# Altium schematic symbol library WE-CMB.SchLib: 36 symbols
Pins are listed as number, name and electrical type; pins without a type are passive.

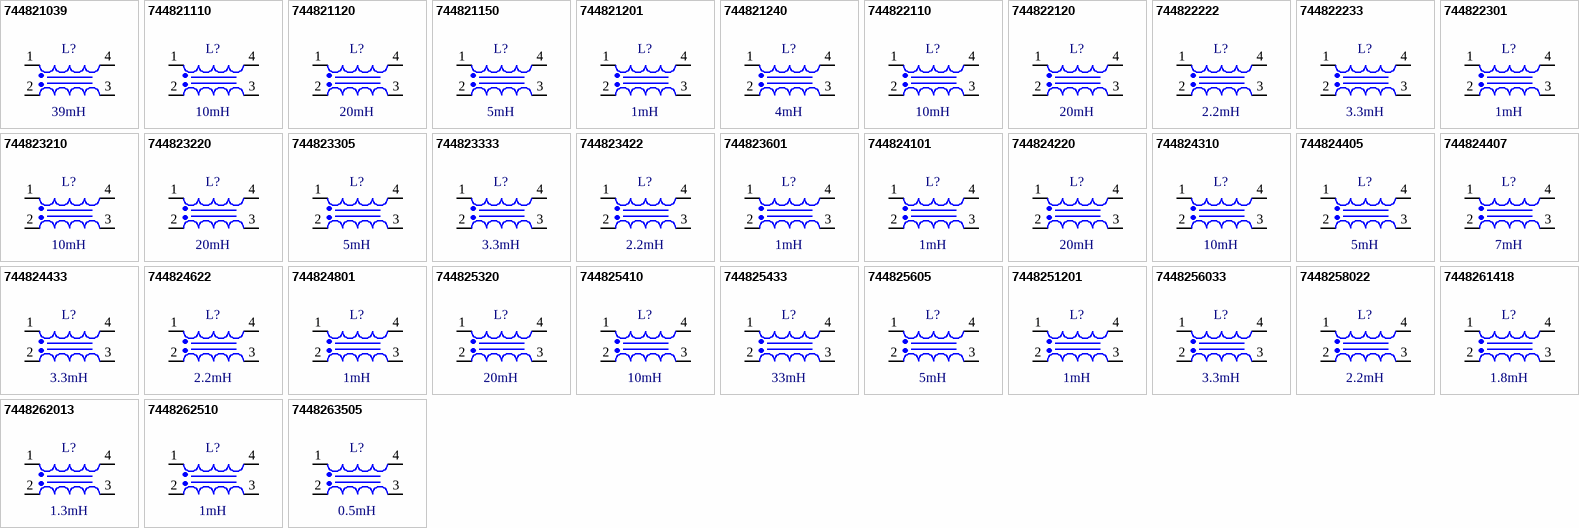
[diagram p0: symbols 744821039 to 7448263505]

## 744821039
designator L?, comment 39mH
WE-CMB Common Mode Power Line Choke, THT, Type XS, 39mH, 0.3A, 3000mΩ; Manufacturer Part Number: 744821039; Manufacturer: Wurth Elektronik; Case/Size Code: Type XS; Insulation Test Voltage: 1500VAC; Material: MnZn; Rated Voltage (AC): 250V; Category: Common Mode Chokes; Match Code: WE-CMB; ComponentLink1Description: Website Link; ComponentLink1URL: https://www.we-online.com/redexpert/article/744821039?ad; ComponentLink2Description: Datasheet Link; ComponentLink2URL: https://www.we-online.com/redexpert/spec/744821039?ad; Mount: Through Hole; Min Operating Temperature: -40°C; Max Operating Temperature: 125°C; Packaging: Carton; Length: 15mm; Width: 7.5mm; Height: 18mm; DC Resistance Max: 3000mΩ; Inductance: 39mH; Rated Current: 0.3A
footprint WE-CMB_Type XS_L15W7.5H18
simulation model XS_744821039_39m
pins: 1, 2, 3, 4

## 744821110
designator L?, comment 10mH
WE-CMB Common Mode Power Line Choke, THT, Type XS, 10mH, 0.7A, 350mΩ; Manufacturer Part Number: 744821110; Manufacturer: Wurth Elektronik; Case/Size Code: Type XS; Insulation Test Voltage: 1500VAC; Material: MnZn; Rated Voltage (AC): 250V; Category: Common Mode Chokes; Match Code: WE-CMB; ComponentLink1Description: Website Link; ComponentLink1URL: https://www.we-online.com/redexpert/article/744821110?ad; ComponentLink2Description: Datasheet Link; ComponentLink2URL: https://www.we-online.com/redexpert/spec/744821110?ad; Mount: Through Hole; Min Operating Temperature: -40°C; Max Operating Temperature: 125°C; Packaging: Carton; Length: 15mm; Width: 7.5mm; Height: 18mm; DC Resistance Max: 350mΩ; Inductance: 10mH; Rated Current: 0.7A
footprint WE-CMB_Type XS_L15W7.5H18
simulation model XS_744821110_10m
pins: 1, 2, 3, 4

## 744821120
designator L?, comment 20mH
WE-CMB Common Mode Power Line Choke, THT, Type XS, 20mH, 0.5A, 1000mΩ; Manufacturer Part Number: 744821120; Manufacturer: Wurth Elektronik; Case/Size Code: Type XS; Insulation Test Voltage: 1500VAC; Material: MnZn; Rated Voltage (AC): 250V; Category: Common Mode Chokes; Match Code: WE-CMB; ComponentLink1Description: Website Link; ComponentLink1URL: https://www.we-online.com/redexpert/article/744821120?ad; ComponentLink2Description: Datasheet Link; ComponentLink2URL: https://www.we-online.com/redexpert/spec/744821120?ad; Mount: Through Hole; Min Operating Temperature: -40°C; Max Operating Temperature: 125°C; Packaging: Carton; Length: 15mm; Width: 7.8mm; Height: 17.5mm; DC Resistance Max: 1000mΩ; Inductance: 20mH; Rated Current: 0.5A
footprint WE-CMB_Type XS_L15W7.8H17.5
simulation model XS_744821120_20m
pins: 1, 2, 3, 4

## 744821150
designator L?, comment 5mH
WE-CMB Common Mode Power Line Choke, THT, Type XS, 5mH, 1A, 220mΩ; Manufacturer Part Number: 744821150; Manufacturer: Wurth Elektronik; Case/Size Code: Type XS; Insulation Test Voltage: 1500VAC; Material: MnZn; Rated Voltage (AC): 250V; Category: Common Mode Chokes; Match Code: WE-CMB; ComponentLink1Description: Website Link; ComponentLink1URL: https://www.we-online.com/redexpert/article/744821150?ad; ComponentLink2Description: Datasheet Link; ComponentLink2URL: https://www.we-online.com/redexpert/spec/744821150?ad; Mount: Through Hole; Min Operating Temperature: -40°C; Max Operating Temperature: 125°C; Packaging: Carton; Length: 15mm; Width: 7.8mm; Height: 18mm; DC Resistance Max: 220mΩ; Inductance: 5mH; Rated Current: 1A
footprint WE-CMB_Type XS_L15W7.8H18
simulation model XS_744821150_5m
pins: 1, 2, 3, 4

## 744821201
designator L?, comment 1mH
WE-CMB Common Mode Power Line Choke, THT, Type XS, 1mH, 2A, 45mΩ; Manufacturer Part Number: 744821201; Manufacturer: Wurth Elektronik; Case/Size Code: Type XS; Insulation Test Voltage: 1500VAC; Material: MnZn; Rated Voltage (AC): 250V; Category: Common Mode Chokes; Match Code: WE-CMB; ComponentLink1Description: Website Link; ComponentLink1URL: https://www.we-online.com/redexpert/article/744821201?ad; ComponentLink2Description: Datasheet Link; ComponentLink2URL: https://www.we-online.com/redexpert/spec/744821201?ad; Mount: Through Hole; Min Operating Temperature: -40°C; Max Operating Temperature: 125°C; Packaging: Carton; Length: 15mm; Width: 7.5mm; Height: 18mm; DC Resistance Max: 45mΩ; Inductance: 1mH; Rated Current: 2A
footprint WE-CMB_Type XS_L15W7.5H18
simulation model XS_744821201_1m
pins: 1, 2, 3, 4

## 744821240
designator L?, comment 4mH
WE-CMB Common Mode Power Line Choke, THT, Type XS, 4mH, 1.5A, 140mΩ; Manufacturer Part Number: 744821240; Manufacturer: Wurth Elektronik; Case/Size Code: Type XS; Insulation Test Voltage: 1500VAC; Material: MnZn; Rated Voltage (AC): 250V; Category: Common Mode Chokes; Match Code: WE-CMB; ComponentLink1Description: Website Link; ComponentLink1URL: https://www.we-online.com/redexpert/article/744821240?ad; ComponentLink2Description: Datasheet Link; ComponentLink2URL: https://www.we-online.com/redexpert/spec/744821240?ad; Mount: Through Hole; Min Operating Temperature: -40°C; Max Operating Temperature: 125°C; Packaging: Carton; Length: 15.8mm; Width: 7.8mm; Height: 18mm; DC Resistance Max: 140mΩ; Inductance: 4mH; Rated Current: 1.5A
footprint WE-CMB_Type XS_L15.8W7.8H18
simulation model XS_744821240_4m
pins: 1, 2, 3, 4

## 744822110
designator L?, comment 10mH
WE-CMB Common Mode Power Line Choke, THT, Type S, 10mH, 1A, 360mΩ; Manufacturer Part Number: 744822110; Manufacturer: Wurth Elektronik; Case/Size Code: Type S; Insulation Test Voltage: 1500VAC; Material: MnZn; Rated Voltage (AC): 250V; Category: Common Mode Chokes; Match Code: WE-CMB; ComponentLink1Description: Website Link; ComponentLink1URL: https://www.we-online.com/redexpert/article/744822110?ad; ComponentLink2Description: Datasheet Link; ComponentLink2URL: https://www.we-online.com/redexpert/spec/744822110?ad; Mount: Through Hole; Min Operating Temperature: -40°C; Max Operating Temperature: 125°C; Packaging: Carton; Length: 17.5mm; Width: 13mm; Height: 22mm; DC Resistance Max: 360mΩ; Inductance: 10mH; Rated Current: 1A
footprint WE-CMB_Type S_L17.5W13H22
simulation model S_744822110_10m
pins: 1, 2, 3, 4

## 744822120
designator L?, comment 20mH
WE-CMB Common Mode Power Line Choke, THT, Type S, 20mH, 0.5A, 540mΩ; Manufacturer Part Number: 744822120; Manufacturer: Wurth Elektronik; Case/Size Code: Type S; Insulation Test Voltage: 1500VAC; Material: MnZn; Rated Voltage (AC): 250V; Category: Common Mode Chokes; Match Code: WE-CMB; ComponentLink1Description: Website Link; ComponentLink1URL: https://www.we-online.com/redexpert/article/744822120?ad; ComponentLink2Description: Datasheet Link; ComponentLink2URL: https://www.we-online.com/redexpert/spec/744822120?ad; Mount: Through Hole; Min Operating Temperature: -40°C; Max Operating Temperature: 125°C; Packaging: Carton; Length: 17.5mm; Width: 13mm; Height: 22mm; DC Resistance Max: 540mΩ; Inductance: 20mH; Rated Current: 0.5A
footprint WE-CMB_Type S_L17.5W13H22
simulation model S_744822120_20m
pins: 1, 2, 3, 4

## 744822222
designator L?, comment 2.2mH
WE-CMB Common Mode Power Line Choke, THT, Type S, 2.2mH, 2A, 70mΩ; Manufacturer Part Number: 744822222; Manufacturer: Wurth Elektronik; Case/Size Code: Type S; Insulation Test Voltage: 1500VAC; Material: MnZn; Rated Voltage (AC): 250V; Category: Common Mode Chokes; Match Code: WE-CMB; ComponentLink1Description: Website Link; ComponentLink1URL: https://www.we-online.com/redexpert/article/744822222?ad; ComponentLink2Description: Datasheet Link; ComponentLink2URL: https://www.we-online.com/redexpert/spec/744822222?ad; Mount: Through Hole; Min Operating Temperature: -40°C; Max Operating Temperature: 125°C; Packaging: Carton; Length: 17.5mm; Width: 13mm; Height: 22mm; DC Resistance Max: 70mΩ; Inductance: 2.2mH; Rated Current: 2A
footprint WE-CMB_Type S_L17.5W13H22
simulation model S_744822222_2.2m
pins: 1, 2, 3, 4

## 744822233
designator L?, comment 3.3mH
WE-CMB Common Mode Power Line Choke, THT, Type S, 3.3mH, 1.5A, 120mΩ; Manufacturer Part Number: 744822233; Manufacturer: Wurth Elektronik; Case/Size Code: Type S; Insulation Test Voltage: 1500VAC; Material: MnZn; Rated Voltage (AC): 250V; Category: Common Mode Chokes; Match Code: WE-CMB; ComponentLink1Description: Website Link; ComponentLink1URL: https://www.we-online.com/redexpert/article/744822233?ad; ComponentLink2Description: Datasheet Link; ComponentLink2URL: https://www.we-online.com/redexpert/spec/744822233?ad; Mount: Through Hole; Min Operating Temperature: -40°C; Max Operating Temperature: 125°C; Packaging: Carton; Length: 17.5mm; Width: 13mm; Height: 22mm; DC Resistance Max: 120mΩ; Inductance: 3.3mH; Rated Current: 1.5A
footprint WE-CMB_Type S_L17.5W13H22
simulation model S_744822233_3.3m
pins: 1, 2, 3, 4

## 744822301
designator L?, comment 1mH
WE-CMB Common Mode Power Line Choke, THT, Type S, 1mH, 3A, 35mΩ; Manufacturer Part Number: 744822301; Manufacturer: Wurth Elektronik; Case/Size Code: Type S; Insulation Test Voltage: 1500VAC; Material: MnZn; Rated Voltage (AC): 250V; Category: Common Mode Chokes; Match Code: WE-CMB; ComponentLink1Description: Website Link; ComponentLink1URL: https://www.we-online.com/redexpert/article/744822301?ad; ComponentLink2Description: Datasheet Link; ComponentLink2URL: https://www.we-online.com/redexpert/spec/744822301?ad; Mount: Through Hole; Min Operating Temperature: -40°C; Max Operating Temperature: 125°C; Packaging: Carton; Length: 17.5mm; Width: 13mm; Height: 22mm; DC Resistance Max: 35mΩ; Inductance: 1mH; Rated Current: 3A
footprint WE-CMB_Type S_L17.5W13H22
simulation model S_744822301_1m
pins: 1, 2, 3, 4

## 744823210
designator L?, comment 10mH
WE-CMB Common Mode Power Line Choke, THT, Type M, 10mH, 2A, 125mΩ; Manufacturer Part Number: 744823210; Manufacturer: Wurth Elektronik; Case/Size Code: Type M; Insulation Test Voltage: 1500VAC; Material: MnZn; Rated Voltage (AC): 250V; Category: Common Mode Chokes; Match Code: WE-CMB; ComponentLink1Description: Website Link; ComponentLink1URL: https://www.we-online.com/redexpert/article/744823210?ad; ComponentLink2Description: Datasheet Link; ComponentLink2URL: https://www.we-online.com/redexpert/spec/744823210?ad; Mount: Through Hole; Min Operating Temperature: -40°C; Max Operating Temperature: 125°C; Packaging: Carton; Length: 23mm; Width: 13.8mm; Height: 25.5mm; DC Resistance Max: 125mΩ; Inductance: 10mH; Rated Current: 2A
footprint WE-CMB_Type M_L23W13.8H25.5
simulation model M_744823210_10m
pins: 1, 2, 3, 4

## 744823220
designator L?, comment 20mH
WE-CMB Common Mode Power Line Choke, THT, Type M, 20mH, 1.5A, 270mΩ; Manufacturer Part Number: 744823220; Manufacturer: Wurth Elektronik; Case/Size Code: Type M; Insulation Test Voltage: 1500VAC; Material: MnZn; Rated Voltage (AC): 250V; Category: Common Mode Chokes; Match Code: WE-CMB; ComponentLink1Description: Website Link; ComponentLink1URL: https://www.we-online.com/redexpert/article/744823220?ad; ComponentLink2Description: Datasheet Link; ComponentLink2URL: https://www.we-online.com/redexpert/spec/744823220?ad; Mount: Through Hole; Min Operating Temperature: -40°C; Max Operating Temperature: 125°C; Packaging: Carton; Length: 23mm; Width: 13.8mm; Height: 25.5mm; DC Resistance Max: 270mΩ; Inductance: 20mH; Rated Current: 1.5A
footprint WE-CMB_Type M_L23W13.8H25.5
simulation model M_744823220_20m
pins: 1, 2, 3, 4

## 744823305
designator L?, comment 5mH
WE-CMB Common Mode Power Line Choke, THT, Type M, 5mH, 2.5A, 95mΩ; Manufacturer Part Number: 744823305; Manufacturer: Wurth Elektronik; Case/Size Code: Type M; Insulation Test Voltage: 1500VAC; Material: MnZn; Rated Voltage (AC): 250V; Category: Common Mode Chokes; Match Code: WE-CMB; ComponentLink1Description: Website Link; ComponentLink1URL: https://www.we-online.com/redexpert/article/744823305?ad; ComponentLink2Description: Datasheet Link; ComponentLink2URL: https://www.we-online.com/redexpert/spec/744823305?ad; Mount: Through Hole; Min Operating Temperature: -40°C; Max Operating Temperature: 125°C; Packaging: Carton; Length: 23mm; Width: 13mm; Height: 25.5mm; DC Resistance Max: 95mΩ; Inductance: 5mH; Rated Current: 2.5A
footprint WE-CMB_Type M_L23W13H25.5
simulation model M_744823305_5m
pins: 1, 2, 3, 4

## 744823333
designator L?, comment 3.3mH
WE-CMB Common Mode Power Line Choke, THT, Type M, 3.3mH, 2.5A, 60mΩ; Manufacturer Part Number: 744823333; Manufacturer: Wurth Elektronik; Case/Size Code: Type M; Insulation Test Voltage: 1500VAC; Material: MnZn; Rated Voltage (AC): 250V; Category: Common Mode Chokes; Match Code: WE-CMB; ComponentLink1Description: Website Link; ComponentLink1URL: https://www.we-online.com/redexpert/article/744823333?ad; ComponentLink2Description: Datasheet Link; ComponentLink2URL: https://www.we-online.com/redexpert/spec/744823333?ad; Mount: Through Hole; Min Operating Temperature: -40°C; Max Operating Temperature: 125°C; Packaging: Carton; Length: 23.5mm; Width: 13mm; Height: 25.5mm; DC Resistance Max: 60mΩ; Inductance: 3.3mH; Rated Current: 2.5A
footprint WE-CMB_Type M_L23.5W13H25.5
simulation model M_744823333_3.3m
pins: 1, 2, 3, 4

## 744823422
designator L?, comment 2.2mH
WE-CMB Common Mode Power Line Choke, THT, Type M, 2.2mH, 4A, 30mΩ; Manufacturer Part Number: 744823422; Manufacturer: Wurth Elektronik; Case/Size Code: Type M; Insulation Test Voltage: 1500VAC; Material: MnZn; Rated Voltage (AC): 250V; Category: Common Mode Chokes; Match Code: WE-CMB; ComponentLink1Description: Website Link; ComponentLink1URL: https://www.we-online.com/redexpert/article/744823422?ad; ComponentLink2Description: Datasheet Link; ComponentLink2URL: https://www.we-online.com/redexpert/spec/744823422?ad; Mount: Through Hole; Min Operating Temperature: -40°C; Max Operating Temperature: 125°C; Packaging: Carton; Length: 23.5mm; Width: 13.8mm; Height: 25.5mm; DC Resistance Max: 30mΩ; Inductance: 2.2mH; Rated Current: 4A
footprint WE-CMB_Type M_L23.5W13.8H25.5
simulation model M_744823422_2.2m
pins: 1, 2, 3, 4

## 744823601
designator L?, comment 1mH
WE-CMB Common Mode Power Line Choke, THT, Type M, 1mH, 6A, 13mΩ; Manufacturer Part Number: 744823601; Manufacturer: Wurth Elektronik; Case/Size Code: Type M; Insulation Test Voltage: 1500VAC; Material: MnZn; Rated Voltage (AC): 250V; Category: Common Mode Chokes; Match Code: WE-CMB; ComponentLink1Description: Website Link; ComponentLink1URL: https://www.we-online.com/redexpert/article/744823601?ad; ComponentLink2Description: Datasheet Link; ComponentLink2URL: https://www.we-online.com/redexpert/spec/744823601?ad; Mount: Through Hole; Min Operating Temperature: -40°C; Max Operating Temperature: 125°C; Packaging: Carton; Length: 25mm; Width: 17mm; Height: 26.5mm; DC Resistance Max: 13mΩ; Inductance: 1mH; Rated Current: 6A
footprint WE-CMB_Type M_L25W17H26.5
simulation model M_744823601_1m
pins: 1, 2, 3, 4

## 744824101
designator L?, comment 1mH
WE-CMB Common Mode Power Line Choke, THT, Type L, 1mH, 10A, 7mΩ; Manufacturer Part Number: 744824101; Manufacturer: Wurth Elektronik; Case/Size Code: Type L; Insulation Test Voltage: 1500VAC; Material: MnZn; Rated Voltage (AC): 250V; Category: Common Mode Chokes; Match Code: WE-CMB; ComponentLink1Description: Website Link; ComponentLink1URL: https://www.we-online.com/redexpert/article/744824101?ad; ComponentLink2Description: Datasheet Link; ComponentLink2URL: https://www.we-online.com/redexpert/spec/744824101?ad; Mount: Through Hole; Min Operating Temperature: -40°C; Max Operating Temperature: 125°C; Packaging: Carton; Length: 27.5mm; Width: 18.5mm; Height: 33mm; DC Resistance Max: 7mΩ; Inductance: 1mH; Rated Current: 10A
footprint WE-CMB_Type L_L27.5W18.5H33
simulation model L_744824101_1m
pins: 1, 2, 3, 4

## 744824220
designator L?, comment 20mH
WE-CMB Common Mode Power Line Choke, THT, Type L, 20mH, 2A, 220mΩ; Manufacturer Part Number: 744824220; Manufacturer: Wurth Elektronik; Case/Size Code: Type L; Insulation Test Voltage: 1500VAC; Material: MnZn; Rated Voltage (AC): 250V; Category: Common Mode Chokes; Match Code: WE-CMB; ComponentLink1Description: Website Link; ComponentLink1URL: https://www.we-online.com/redexpert/article/744824220?ad; ComponentLink2Description: Datasheet Link; ComponentLink2URL: https://www.we-online.com/redexpert/spec/744824220?ad; Mount: Through Hole; Min Operating Temperature: -40°C; Max Operating Temperature: 125°C; Packaging: Carton; Length: 27.5mm; Width: 18.5mm; Height: 33mm; DC Resistance Max: 220mΩ; Inductance: 20mH; Rated Current: 2A
footprint WE-CMB_Type L_L27.5W18.5H33
simulation model L_744824220_20m
pins: 1, 2, 3, 4

## 744824310
designator L?, comment 10mH
WE-CMB Common Mode Power Line Choke, THT, Type L, 10mH, 3A, 105mΩ; Manufacturer Part Number: 744824310; Manufacturer: Wurth Elektronik; Case/Size Code: Type L; Insulation Test Voltage: 1500VAC; Material: MnZn; Rated Voltage (AC): 250V; Category: Common Mode Chokes; Match Code: WE-CMB; ComponentLink1Description: Website Link; ComponentLink1URL: https://www.we-online.com/redexpert/article/744824310?ad; ComponentLink2Description: Datasheet Link; ComponentLink2URL: https://www.we-online.com/redexpert/spec/744824310?ad; Mount: Through Hole; Min Operating Temperature: -40°C; Max Operating Temperature: 125°C; Packaging: Carton; Length: 27.5mm; Width: 18.5mm; Height: 33mm; DC Resistance Max: 105mΩ; Inductance: 10mH; Rated Current: 3A
footprint WE-CMB_Type L_L27.5W18.5H33
simulation model L_744824310_10m
pins: 1, 2, 3, 4

## 744824405
designator L?, comment 5mH
WE-CMB Common Mode Power Line Choke, THT, Type L, 5mH, 4A, 50mΩ; Manufacturer Part Number: 744824405; Manufacturer: Wurth Elektronik; Case/Size Code: Type L; Insulation Test Voltage: 1500VAC; Material: MnZn; Rated Voltage (AC): 250V; Category: Common Mode Chokes; Match Code: WE-CMB; ComponentLink1Description: Website Link; ComponentLink1URL: https://www.we-online.com/redexpert/article/744824405?ad; ComponentLink2Description: Datasheet Link; ComponentLink2URL: https://www.we-online.com/redexpert/spec/744824405?ad; Mount: Through Hole; Min Operating Temperature: -40°C; Max Operating Temperature: 125°C; Packaging: Carton; Length: 27.5mm; Width: 18.5mm; Height: 33mm; DC Resistance Max: 50mΩ; Inductance: 5mH; Rated Current: 4A
footprint WE-CMB_Type L_L27.5W18.5H33
simulation model L_744824405_5m
pins: 1, 2, 3, 4

## 744824407
designator L?, comment 7mH
WE-CMB Common Mode Power Line Choke, THT, Type L, 7mH, 3.5A, 80mΩ; Manufacturer Part Number: 744824407; Manufacturer: Wurth Elektronik; Case/Size Code: Type L; Insulation Test Voltage: 1500VAC; Material: MnZn; Rated Voltage (AC): 250V; Category: Common Mode Chokes; Match Code: WE-CMB; ComponentLink1Description: Website Link; ComponentLink1URL: https://www.we-online.com/redexpert/article/744824407?ad; ComponentLink2Description: Datasheet Link; ComponentLink2URL: https://www.we-online.com/redexpert/spec/744824407?ad; Mount: Through Hole; Min Operating Temperature: -40°C; Max Operating Temperature: 125°C; Packaging: Carton; Length: 27.5mm; Width: 18.5mm; Height: 33mm; DC Resistance Max: 80mΩ; Inductance: 7mH; Rated Current: 3.5A
footprint WE-CMB_Type L_L27.5W18.5H33
simulation model L_744824407_7m
pins: 1, 2, 3, 4

## 744824433
designator L?, comment 3.3mH
WE-CMB Common Mode Power Line Choke, THT, Type L, 3.3mH, 4A, 35mΩ; Manufacturer Part Number: 744824433; Manufacturer: Wurth Elektronik; Case/Size Code: Type L; Insulation Test Voltage: 1500VAC; Material: MnZn; Rated Voltage (AC): 250V; Category: Common Mode Chokes; Match Code: WE-CMB; ComponentLink1Description: Website Link; ComponentLink1URL: https://www.we-online.com/redexpert/article/744824433?ad; ComponentLink2Description: Datasheet Link; ComponentLink2URL: https://www.we-online.com/redexpert/spec/744824433?ad; Mount: Through Hole; Min Operating Temperature: -40°C; Max Operating Temperature: 125°C; Packaging: Carton; Length: 27.5mm; Width: 18.5mm; Height: 33mm; DC Resistance Max: 35mΩ; Inductance: 3.3mH; Rated Current: 4A
footprint WE-CMB_Type L_L27.5W18.5H33
simulation model L_744824433_3.3m
pins: 1, 2, 3, 4

## 744824622
designator L?, comment 2.2mH
WE-CMB Common Mode Power Line Choke, THT, Type L, 2.2mH, 6A, 20mΩ; Manufacturer Part Number: 744824622; Manufacturer: Wurth Elektronik; Case/Size Code: Type L; Insulation Test Voltage: 1500VAC; Material: MnZn; Rated Voltage (AC): 250V; Category: Common Mode Chokes; Match Code: WE-CMB; ComponentLink1Description: Website Link; ComponentLink1URL: https://www.we-online.com/redexpert/article/744824622?ad; ComponentLink2Description: Datasheet Link; ComponentLink2URL: https://www.we-online.com/redexpert/spec/744824622?ad; Mount: Through Hole; Min Operating Temperature: -40°C; Max Operating Temperature: 125°C; Packaging: Carton; Length: 27.5mm; Width: 18.5mm; Height: 33mm; DC Resistance Max: 20mΩ; Inductance: 2.2mH; Rated Current: 6A
footprint WE-CMB_Type L_L27.5W18.5H33
simulation model L_744824622_2.2m
pins: 1, 2, 3, 4

## 744824801
designator L?, comment 1mH
WE-CMB Common Mode Power Line Choke, THT, Type L, 1mH, 7.5A, 10mΩ; Manufacturer Part Number: 744824801; Manufacturer: Wurth Elektronik; Case/Size Code: Type L; Insulation Test Voltage: 1500VAC; Material: MnZn; Rated Voltage (AC): 250V; Category: Common Mode Chokes; Match Code: WE-CMB; ComponentLink1Description: Website Link; ComponentLink1URL: https://www.we-online.com/redexpert/article/744824801?ad; ComponentLink2Description: Datasheet Link; ComponentLink2URL: https://www.we-online.com/redexpert/spec/744824801?ad; Mount: Through Hole; Min Operating Temperature: -40°C; Max Operating Temperature: 125°C; Packaging: Carton; Length: 27.5mm; Width: 18.5mm; Height: 33mm; DC Resistance Max: 10mΩ; Inductance: 1mH; Rated Current: 7.5A
footprint WE-CMB_Type L_L27.5W18.5H33
simulation model L_744824801_1m
pins: 1, 2, 3, 4

## 744825320
designator L?, comment 20mH
WE-CMB Common Mode Power Line Choke, THT, Type XL, 20mH, 3A, 160mΩ; Manufacturer Part Number: 744825320; Manufacturer: Wurth Elektronik; Case/Size Code: Type XL; Insulation Test Voltage: 1500VAC; Material: MnZn; Rated Voltage (AC): 250V; Category: Common Mode Chokes; Match Code: WE-CMB; ComponentLink1Description: Website Link; ComponentLink1URL: https://www.we-online.com/redexpert/article/744825320?ad; ComponentLink2Description: Datasheet Link; ComponentLink2URL: https://www.we-online.com/redexpert/spec/744825320?ad; Mount: Through Hole; Min Operating Temperature: -40°C; Max Operating Temperature: 125°C; Packaging: Carton; Length: 30mm; Width: 21mm; Height: 35mm; DC Resistance Max: 160mΩ; Inductance: 20mH; Rated Current: 3A
footprint WE-CMB_Type XL_L30W21H35
simulation model XL_744825320_20m
pins: 1, 2, 3, 4

## 744825410
designator L?, comment 10mH
WE-CMB Common Mode Power Line Choke, THT, Type XL, 10mH, 4.5A, 70mΩ; Manufacturer Part Number: 744825410; Manufacturer: Wurth Elektronik; Case/Size Code: Type XL; Insulation Test Voltage: 1500VAC; Material: MnZn; Rated Voltage (AC): 250V; Category: Common Mode Chokes; Match Code: WE-CMB; ComponentLink1Description: Website Link; ComponentLink1URL: https://www.we-online.com/redexpert/article/744825410?ad; ComponentLink2Description: Datasheet Link; ComponentLink2URL: https://www.we-online.com/redexpert/spec/744825410?ad; Mount: Through Hole; Min Operating Temperature: -40°C; Max Operating Temperature: 125°C; Packaging: Carton; Length: 30mm; Width: 21mm; Height: 35mm; DC Resistance Max: 70mΩ; Inductance: 10mH; Rated Current: 4.5A
footprint WE-CMB_Type XL_L30W21H35
simulation model XL_744825410_10m
pins: 1, 2, 3, 4

## 744825433
designator L?, comment 33mH
WE-CMB Common Mode Power Line Choke, THT, Type XL, 33mH, 3A, 210mΩ; Manufacturer Part Number: 744825433; Manufacturer: Wurth Elektronik; Case/Size Code: Type XL; Insulation Test Voltage: 1500VAC; Material: MnZn; Rated Voltage (AC): 250V; Category: Common Mode Chokes; Match Code: WE-CMB; ComponentLink1Description: Website Link; ComponentLink1URL: https://www.we-online.com/redexpert/article/744825433?ad; ComponentLink2Description: Datasheet Link; ComponentLink2URL: https://www.we-online.com/redexpert/spec/744825433?ad; Mount: Through Hole; Min Operating Temperature: -40°C; Max Operating Temperature: 125°C; Packaging: Carton; Length: 30mm; Width: 21mm; Height: 35mm; DC Resistance Max: 210mΩ; Inductance: 33mH; Rated Current: 3A
footprint WE-CMB_Type XL_L30W21H35
simulation model XL_744825433_33m
pins: 1, 2, 3, 4

## 744825605
designator L?, comment 5mH
WE-CMB Common Mode Power Line Choke, THT, Type XL, 5mH, 6A, 45mΩ; Manufacturer Part Number: 744825605; Manufacturer: Wurth Elektronik; Case/Size Code: Type XL; Insulation Test Voltage: 1500VAC; Material: MnZn; Rated Voltage (AC): 250V; Category: Common Mode Chokes; Match Code: WE-CMB; ComponentLink1Description: Website Link; ComponentLink1URL: https://www.we-online.com/redexpert/article/744825605?ad; ComponentLink2Description: Datasheet Link; ComponentLink2URL: https://www.we-online.com/redexpert/spec/744825605?ad; Mount: Through Hole; Min Operating Temperature: -40°C; Max Operating Temperature: 125°C; Packaging: Carton; Length: 30mm; Width: 21mm; Height: 35mm; DC Resistance Max: 45mΩ; Inductance: 5mH; Rated Current: 6A
footprint WE-CMB_Type XL_L30W21H35
simulation model XL_744825605_5m
pins: 1, 2, 3, 4

## 7448251201
designator L?, comment 1mH
WE-CMB Common Mode Power Line Choke, THT, Type XL, 1mH, 12A, 9mΩ; Manufacturer Part Number: 7448251201; Manufacturer: Wurth Elektronik; Case/Size Code: Type XL; Insulation Test Voltage: 1500VAC; Material: MnZn; Rated Voltage (AC): 250V; Category: Common Mode Chokes; Match Code: WE-CMB; ComponentLink1Description: Website Link; ComponentLink1URL: https://www.we-online.com/redexpert/article/7448251201?ad; ComponentLink2Description: Datasheet Link; ComponentLink2URL: https://www.we-online.com/redexpert/spec/7448251201?ad; Mount: Through Hole; Min Operating Temperature: -40°C; Max Operating Temperature: 125°C; Packaging: Carton; Length: 31mm; Width: 22mm; Height: 35mm; DC Resistance Max: 9mΩ; Inductance: 1mH; Rated Current: 12A
footprint WE-CMB_Type XL_L31W22H35
simulation model XL_7448251201_1m
pins: 1, 2, 3, 4

## 7448256033
designator L?, comment 3.3mH
WE-CMB Common Mode Power Line Choke, THT, Type XL, 3.3mH, 6A, 25mΩ; Manufacturer Part Number: 7448256033; Manufacturer: Wurth Elektronik; Case/Size Code: Type XL; Insulation Test Voltage: 1500VAC; Material: MnZn; Rated Voltage (AC): 250V; Category: Common Mode Chokes; Match Code: WE-CMB; ComponentLink1Description: Website Link; ComponentLink1URL: https://www.we-online.com/redexpert/article/7448256033?ad; ComponentLink2Description: Datasheet Link; ComponentLink2URL: https://www.we-online.com/redexpert/spec/7448256033?ad; Mount: Through Hole; Min Operating Temperature: -40°C; Max Operating Temperature: 125°C; Packaging: Carton; Length: 30mm; Width: 21mm; Height: 35mm; DC Resistance Max: 25mΩ; Inductance: 3.3mH; Rated Current: 6A
footprint WE-CMB_Type XL_L30W21H35
simulation model XL_7448256033_3.3m
pins: 1, 2, 3, 4

## 7448258022
designator L?, comment 2.2mH
WE-CMB Common Mode Power Line Choke, THT, Type XL, 2.2mH, 8A, 14mΩ; Manufacturer Part Number: 7448258022; Manufacturer: Wurth Elektronik; Case/Size Code: Type XL; Insulation Test Voltage: 1500VAC; Material: MnZn; Rated Voltage (AC): 250V; Category: Common Mode Chokes; Match Code: WE-CMB; ComponentLink1Description: Website Link; ComponentLink1URL: https://www.we-online.com/redexpert/article/7448258022?ad; ComponentLink2Description: Datasheet Link; ComponentLink2URL: https://www.we-online.com/redexpert/spec/7448258022?ad; Mount: Through Hole; Min Operating Temperature: -40°C; Max Operating Temperature: 125°C; Packaging: Carton; Length: 30mm; Width: 21mm; Height: 35mm; DC Resistance Max: 14mΩ; Inductance: 2.2mH; Rated Current: 8A
footprint WE-CMB_Type XL_L30W21H35
simulation model XL_7448258022_2.2m
pins: 1, 2, 3, 4

## 7448261418
designator L?, comment 1.8mH
WE-CMB Common Mode Power Line Choke, THT, Type XXL, 1.8mH, 14A, 9.5mΩ; Manufacturer Part Number: 7448261418; Manufacturer: Wurth Elektronik; Insulation Test Voltage: 1500VAC; Material: MnZn; Rated Voltage (AC): 250V; Category: Common Mode Chokes; Match Code: WE-CMB; ComponentLink1Description: Website Link; ComponentLink1URL: https://www.we-online.com/redexpert/article/7448261418?ad; ComponentLink2Description: Datasheet Link; ComponentLink2URL: https://www.we-online.com/redexpert/spec/7448261418?ad; Mount: Through Hole; Min Operating Temperature: -40°C; Max Operating Temperature: 125°C; Packaging: Carton; Case/Size Code: Type XXL; Length: 43mm; Width: 23.5mm; Height: 43mm; DC Resistance Max: 9.5mΩ; Inductance: 1.8mH; Rated Current: 14A
footprint WE-CMB_Type XXL_L43W23.5H43
simulation model XXL_7448261418_1.8m
pins: 1, 2, 3, 4

## 7448262013
designator L?, comment 1.3mH
WE-CMB Common Mode Power Line Choke, THT, Type XXL, 1.3mH, 20A, 6.2mΩ; Manufacturer Part Number: 7448262013; Manufacturer: Wurth Elektronik; Insulation Test Voltage: 1500VAC; Material: MnZn; Rated Voltage (AC): 250V; Category: Common Mode Chokes; Match Code: WE-CMB; ComponentLink1Description: Website Link; ComponentLink1URL: https://www.we-online.com/redexpert/article/7448262013?ad; ComponentLink2Description: Datasheet Link; ComponentLink2URL: https://www.we-online.com/redexpert/spec/7448262013?ad; Mount: Through Hole; Min Operating Temperature: -40°C; Max Operating Temperature: 125°C; Packaging: Carton; Case/Size Code: Type XXL; Length: 43.5mm; Width: 23.5mm; Height: 43mm; DC Resistance Max: 6.2mΩ; Inductance: 1.3mH; Rated Current: 20A
footprint WE-CMB_Type XXL_L43.5W23.5H43
simulation model XXL_7448262013_1.3m
pins: 1, 2, 3, 4

## 7448262510
designator L?, comment 1mH
WE-CMB Common Mode Power Line Choke, THT, Type XXL, 1mH, 25A, 4.5mΩ; Manufacturer Part Number: 7448262510; Manufacturer: Wurth Elektronik; Insulation Test Voltage: 1500VAC; Material: MnZn; Rated Voltage (AC): 250V; Category: Common Mode Chokes; Match Code: WE-CMB; ComponentLink1Description: Website Link; ComponentLink1URL: https://www.we-online.com/redexpert/article/7448262510?ad; ComponentLink2Description: Datasheet Link; ComponentLink2URL: https://www.we-online.com/redexpert/spec/7448262510?ad; Mount: Through Hole; Min Operating Temperature: -40°C; Max Operating Temperature: 125°C; Packaging: Carton; Case/Size Code: Type XXL; Length: 44mm; Width: 23.5mm; Height: 43mm; DC Resistance Max: 4.5mΩ; Inductance: 1mH; Rated Current: 25A
footprint WE-CMB_Type XXL_L44W23.5H43
simulation model XXL_7448262510_1m
pins: 1, 2, 3, 4

## 7448263505
designator L?, comment 0.5mH
WE-CMB Common Mode Power Line Choke, THT, Type XXL, 0.5mH, 35A, 2.3mΩ; Manufacturer Part Number: 7448263505; Manufacturer: Wurth Elektronik; Insulation Test Voltage: 1500VAC; Material: MnZn; Rated Voltage (AC): 250V; Category: Common Mode Chokes; Match Code: WE-CMB; ComponentLink1Description: Website Link; ComponentLink1URL: https://www.we-online.com/redexpert/article/7448263505?ad; ComponentLink2Description: Datasheet Link; ComponentLink2URL: https://www.we-online.com/redexpert/spec/7448263505?ad; Mount: Through Hole; Min Operating Temperature: -40°C; Max Operating Temperature: 125°C; Packaging: Carton; Case/Size Code: Type XXL; Length: 47mm; Width: 23.5mm; Height: 43mm; DC Resistance Max: 2.3mΩ; Inductance: 0.5mH; Rated Current: 35A
footprint WE-CMB_Type XXL_L47W23.5H43
simulation model XXL_7448263505_0.5m
pins: 1, 2, 3, 4